# EAGLE library part TEXAS_INSTRUMENTS_TPS7A470X (library Poe)
RF LDO Voltage Regulator. 36-V, 1-A, 4-µVRMS. Input Voltage Range: +3 V to +36 V. Output Voltage Range: +1.4 V to +20.5 V. No External Feedback Resistors or Feed- resistors. Forward Capacitors Required. Output voltages are user-programmable (up to 20.5 V).
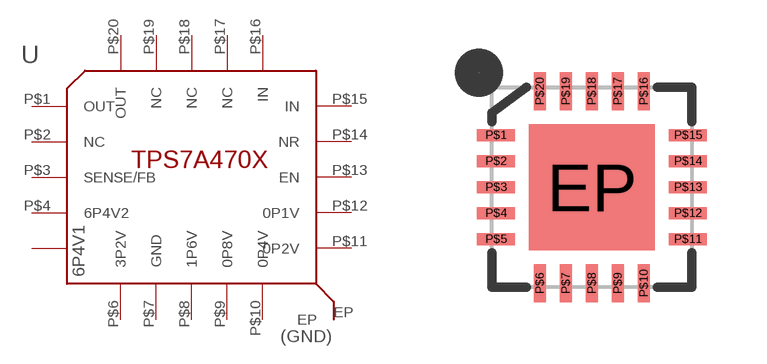
[diagram p4: symbol with the pads of 20-VQFN_EXPPAD; footprint 20-VQFN_EXPPAD]

Designator prefix U

## TEXAS_INSTRUMENTS_TPS7A470X  [20-VQFN_EXPPAD]
EP  EP
P$1  OUT
P$2  NC
P$3  SENSE/FB
P$4  6P4V2
P$5  6P4V1
P$6  3P2V
P$7  GND
P$8  1P6V
P$9  0P8V
P$10  0P4V
P$11  0P2V
P$12  0P1V
P$13  EN
P$14  NR
P$15  IN
P$16  IN
P$17  NC
P$18  NC
P$19  NC
P$20  OUT

## Footprint 20-VQFN_EXPPAD (pad centres in mm)
smd 3.15 x 3.15: EP 0,0
smd 0.95 x 0.3: P$1 -2.4,1.3; P$2 -2.4,0.65; P$3 -2.4,0; P$4 -2.4,-0.65; P$5 -2.4,-1.3; P$11 2.4,-1.3; P$12 2.4,-0.65; P$13 2.4,0; P$14 2.4,0.65; P$15 2.4,1.3
smd 0.3 x 0.95: P$6 -1.3,-2.4; P$7 -0.65,-2.4; P$8 0,-2.4; P$9 0.65,-2.4; P$10 1.3,-2.4; P$16 1.3,2.4; P$17 0.65,2.4; P$18 0,2.4; P$19 -0.65,2.4; P$20 -1.3,2.4